# EAGLE library part MICROFIT14 (library unicorn)
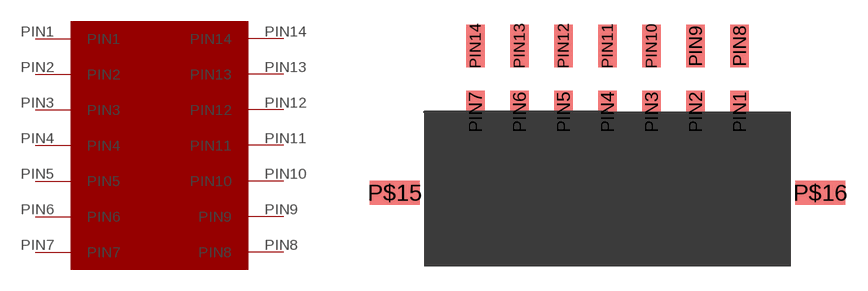
[diagram p0: symbol with the pads of MICROFIT14SOCK; footprint MICROFIT14SOCK]

Designator prefix -

## MICROFIT14  [MICROFIT14SOCK]
PIN1  PIN1
PIN2  PIN2
PIN3  PIN3
PIN4  PIN4
PIN5  PIN5
PIN6  PIN6
PIN7  PIN7
PIN8  PIN8
PIN9  PIN9
PIN10  PIN10
PIN11  PIN11
PIN12  PIN12
PIN13  PIN13
PIN14  PIN14

## Footprint MICROFIT14SOCK (pad centres in mm)
smd 3.43 x 1.65: P$15 -14.5,-7.5; P$16 14.5,-7.5
smd 1.27 x 2.92: PIN1 9,-2; PIN2 6,-2; PIN3 3,-2; PIN4 0,-2; PIN5 -3,-2; PIN6 -6,-2; PIN7 -9,-2; PIN8 9,2.5; PIN9 6,2.5; PIN10 3,2.5; PIN11 0,2.5; PIN12 -3,2.5; PIN13 -6,2.5; PIN14 -9,2.5